# Altium schematic symbol library LED GREEN SMD 0603.Schlib: 1 symbol
Pins are listed as number, name and electrical type; pins without a type are passive.

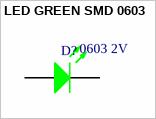
[diagram p0: symbol LED GREEN SMD 0603]

## LED GREEN SMD 0603
designator D?, comment 0603 2V
LED Uni-Color Green 574nm 2-Pin Chip LED T/R
footprint 0603 - LED
pins: 1 A, 2 K